# Altium schematic symbol library Capacitor.SchLib: 26 symbols
Pins are listed as number, name and electrical type; pins without a type are passive.

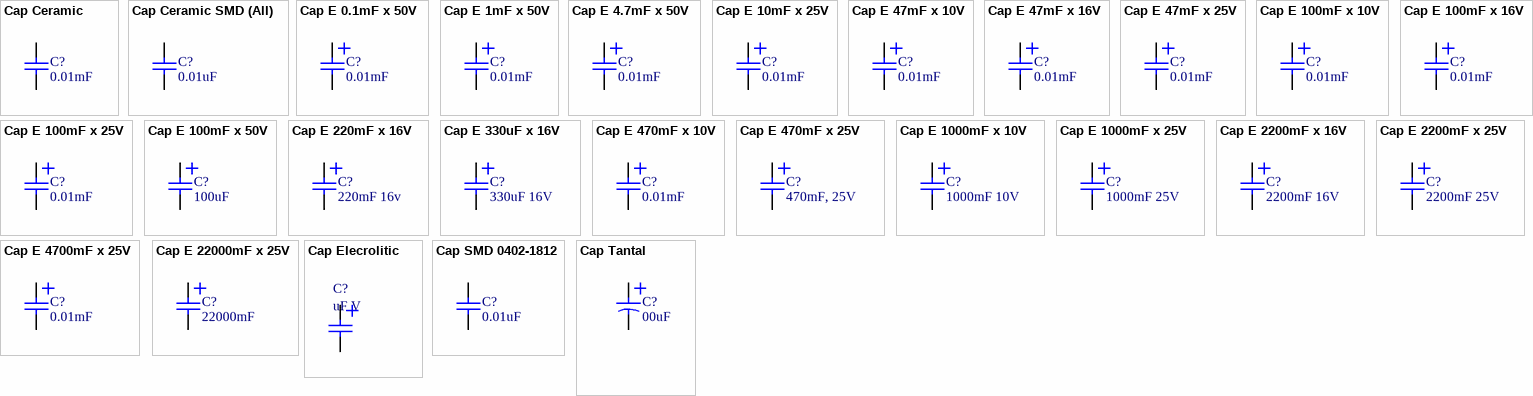
[diagram p0: symbols Cap Ceramic to Cap Tantal]

## Cap Ceramic
designator C?, comment 0.01mF
Capacitor
footprint Cap P5.08MM (3p) disk2
footprint Cap P5.08MM (3p) Disk
footprint Cap p2.54mm (2p)
pins: 1, 2

## Cap Ceramic SMD (All)
designator C?, comment 0.01uF
Capacitor
footprint SMD 0603 (1608)
footprint SMD 1206 (3216)
footprint SMD 0805 (2012)
footprint SMD 0805 (2012) (short)
pins: 1, 2

## Cap E 0.1mF x 50V
designator C?, comment 0.01mF
Capacitor
pins: 1, 2

## Cap E 1mF x 50V
designator C?, comment 0.01mF
Capacitor
pins: 1, 2

## Cap E 4.7mF x 50V
designator C?, comment 0.01mF
Capacitor
pins: 1, 2

## Cap E 10mF x 25V
designator C?, comment 0.01mF
Capacitor
pins: 1, 2

## Cap E 47mF x 10V
designator C?, comment 0.01mF
Capacitor
footprint Cap E p1.5mm D4xH8 (2p) (D 4mm; H 8mm)
pins: 1, 2

## Cap E 47mF x 16V
designator C?, comment 0.01mF
Capacitor
footprint Cap E p1.5mm D4xH8 (2p) (D 4mm; H 8mm)
pins: 1, 2

## Cap E 47mF x 25V
designator C?, comment 0.01mF
Capacitor
footprint Cap E p1.5mm D4xH8 (2p) (D 4mm; H 8mm)
pins: 1, 2

## Cap E 100mF x 10V
designator C?, comment 0.01mF
Capacitor
footprint Cap E p1.5mm D4xH8 (2p) (D 4mm; H 8mm)
pins: 1, 2

## Cap E 100mF x 16V
designator C?, comment 0.01mF
Capacitor
pins: 1, 2

## Cap E 100mF x 25V
designator C?, comment 0.01mF
Capacitor
pins: 1, 2

## Cap E 100mF x 50V
designator C?, comment 100uF
Capacitor
footprint Cap E p3.5mm D8xH12 (D 8mm; H 12mm)
pins: 1, 2

## Cap E 220mF x 16V
designator C?, comment 220mF 16v
Capacitor; Value: 220mF 16v
footprint Cap E p2mm D6.5xH11 (D 6.5mm; H 11mm)
footprint Cap E p4mm D6.5xH11 (D 6.5mm; H 11mm)
footprint Cap E p2.5mm D6.3xH11.5 R (D 6.3mm; H 11.5mm)
footprint Cap E p2.5mm D6.3xH11.5 R - PL (D 6.3mm; H 11.5mm)
footprint Cap E p2.5mm D6.3xH11.5 R - PR (D 6.3mm; H 11.5mm)
pins: 1, 2

## Cap E 330uF x 16V
designator C?, comment 330uF 16V
Capacitor
footprint Cap E p3.5mm D8xH12 (D 8mm; H 12mm)
footprint Cap E p3.5mm D8xH12 R (D 8mm; H 12mm)
footprint Cap E p3.5mm D8xH12 R - PL (D 8mm; H 12mm)
footprint Cap E p3.5mm D8xH12 R - PR (D 8mm; H 12mm)
pins: 1, 2

## Cap E 470mF x 10V
designator C?, comment 0.01mF
Capacitor
pins: 1, 2

## Cap E 470mF x 25V
designator C?, comment 470mF, 25V
Capacitor; Capacity (mF): 470; Voltage (V): 25; Value: 470mF, 25V
footprint Cap E p3.5mm D8xH12 (D 8mm; H 12mm)
footprint Cap E p3.5mm D8xH12 R (D 8mm; H 12mm)
footprint Cap E p3.5mm D8xH12 R - PL (D 8mm; H 12mm)
footprint Cap E p3.5mm D8xH12 R - PR (D 8mm; H 12mm)
pins: 1, 2

## Cap E 1000mF x 10V
designator C?, comment 1000mF 10V
Capacitor
pins: 1, 2

## Cap E 1000mF x 25V
designator C?, comment 1000mF 25V
Capacitor
footprint Cap E p5.08mm D10.2mm (3p) (D 10.2mm; H 17.5mm, Hole: 0.7mm)
footprint Cap E p5.08mm D10.2mm (3p) R (RIGHT - Len 16mm; D 10mm, Hole: 0.7mm)
footprint Cap E p5mm D10 x 20(22)mm (3p) R (RIGHT - Len 20-22mm; D 10mm, Hole: 0.7mm)
pins: 1, 2

## Cap E 2200mF x 16V
designator C?, comment 2200mF 16V
Capacitor
footprint Cap E p5mm D10 x 20(22)mm (3p) R (RIGHT - Len 20-22mm; D 10mm, Hole: 0.7mm)
footprint Cap E p5.08mm D10.2mm (3p) (D 10.2mm; H 17.5mm, Hole: 0.7mm)
footprint Cap E p5.08mm D10.2mm (3p) R (RIGHT - Len 16mm; D 10mm, Hole: 0.7mm)
pins: 1, 2

## Cap E 2200mF x 25V
designator C?, comment 2200mF 25V
Capacitor
pins: 1, 2

## Cap E 4700mF x 25V
designator C?, comment 0.01mF
Capacitor
pins: 1, 2

## Cap E 22000mF x 25V
designator C?, comment 22000mF
Capacitor
footprint Cap E p10mm D30mm (4p) (D 30mm; H 47mm)
pins: 1, 2

## Cap Elecrolitic
designator C?, comment uF V
Capacitor
footprint Cap E p1.5mm D4xH8 (2p) (D 4mm; H 8mm)
footprint Cap E p2mm D6.5xH11 (D 6.5mm; H 11mm)
footprint Cap E p2.5mm D6.3xH11.5 R (D 6.3mm; H 11.5mm)
footprint Cap E p2.5mm D6.3xH11.5 R - PL (D 6.3mm; H 11.5mm)
footprint Cap E p2.5mm D6.3xH11.5 R - PR (D 6.3mm; H 11.5mm)
footprint Cap E p2.54mm D4xH8 (2p) (D 4mm; H 8mm)
footprint Cap E p2.54mm D5mm (2p) (D 5mm; H 8mm)
footprint Cap E p3.5mm D8xH12 (D 8mm; H 12mm)
footprint Cap E p3.5mm D8xH12 R (D 8mm; H 12mm)
footprint Cap E p3.5mm D8xH12 R - PL (D 8mm; H 12mm)
footprint Cap E p3.5mm D8xH12 R - PR (D 8mm; H 12mm)
footprint Cap E p4mm D6.5xH11 (D 6.5mm; H 11mm)
footprint Cap E p2.5mm D6.3xH11.5 R (D 6.3mm; H 11.5mm)
footprint Cap E p5mm D10 x 20(22)mm (3p) R (RIGHT - Len 20-22mm; D 10mm, Hole: 0.7mm)
footprint Cap E p5.08mm D10.2mm (3p) (D 10.2mm; H 17.5mm, Hole: 0.7mm)
footprint Cap E p5.08mm D10.2mm (3p) R (RIGHT - Len 16mm; D 10mm, Hole: 0.7mm)
footprint Cap E p7.62mm D13mm (4p) (D 13mm; H 25mm, Hole: 1mm)
footprint Cap E p7.62mm D16mm (4p) (D 16mm; H 25mm)
footprint Cap E p10mm D30mm (4p) (D 30mm; H 47mm)
pins: 1, 2

## Cap SMD 0402-1812
designator C?, comment 0.01uF
Capacitor
footprint SMD 0603 (1608)
footprint SMD 1206 (3216)
footprint SMD 0805 (2012)
footprint SMD 0805 (2012) (short)
pins: 1, 2

## Cap Tantal
designator C?, comment 00uF
Capacitor
footprint SMD 1206 Tantal (3216)
footprint Tantal p2.54mm (2p) (Disk small)
footprint SMD 3528 Tantal (1210)
pins: GND 2, VCC 1